# Altium footprint library LF-uDFN-6.PcbLib: 1 footprints
Each footprint in its own frame and in the unit in brackets; x right, y up, seen from the top. Pads: shape width x height; smd on the part's side, far side on the other; paste and mask are expansions set on the pad; w line width, h text height; cw(c..) or ccw(c..) is an arc to the next point about the centre after c.
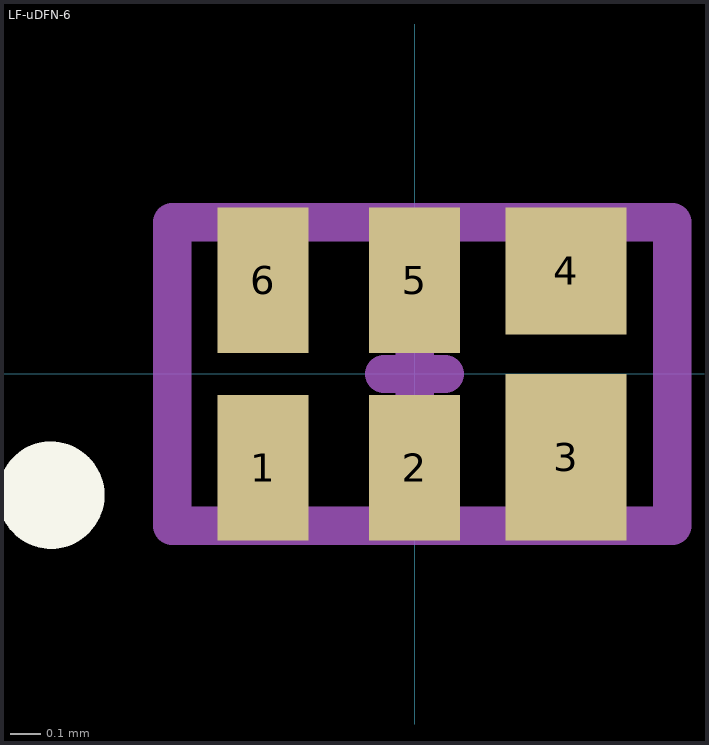
[diagram p0: the footprint, top view; thin cyan lines are the x and y axes]

## LF-uDFN-6 [mm]
height 0.55
pads (6):
  rect 0.3x0.48 smd mask+0.051: 1(-0.5,-0.31) 2(0,-0.31) 5(0,0.31) 6(-0.5,0.31)
  rect 0.4x0.55 smd mask+0.051: 3(0.5,-0.275)
  rect 0.4x0.42 smd mask+0.051: 4(0.5,0.34)
Top Overlay:
  circle w0.254: c-1.2,-0.4 r0.05
Mechanical 13:
  lines w0.127: -0.8,-0.5 -0.8,0.5 0.85,0.5 0.85,-0.5 -0.8,-0.5
Mechanical 15:
  lines w0.127: -0.1,0 0,0 ; 0,-0.1 0,0 ; 0,0.1 0,0 ; 0.1,0 0,0
3D body: height 0.25, standoff 0, extent -0.8,-0.5 0.85,0.5